# Altium footprint library 拍手开关电路设计.PcbLib: 8 footprints
Each footprint in its own frame and in the unit in brackets; x right, y up, seen from the top. Pads: shape width x height; smd on the part's side, far side on the other; paste and mask are expansions set on the pad; w line width, h text height; cw(c..) or ccw(c..) is an arc to the next point about the centre after c.
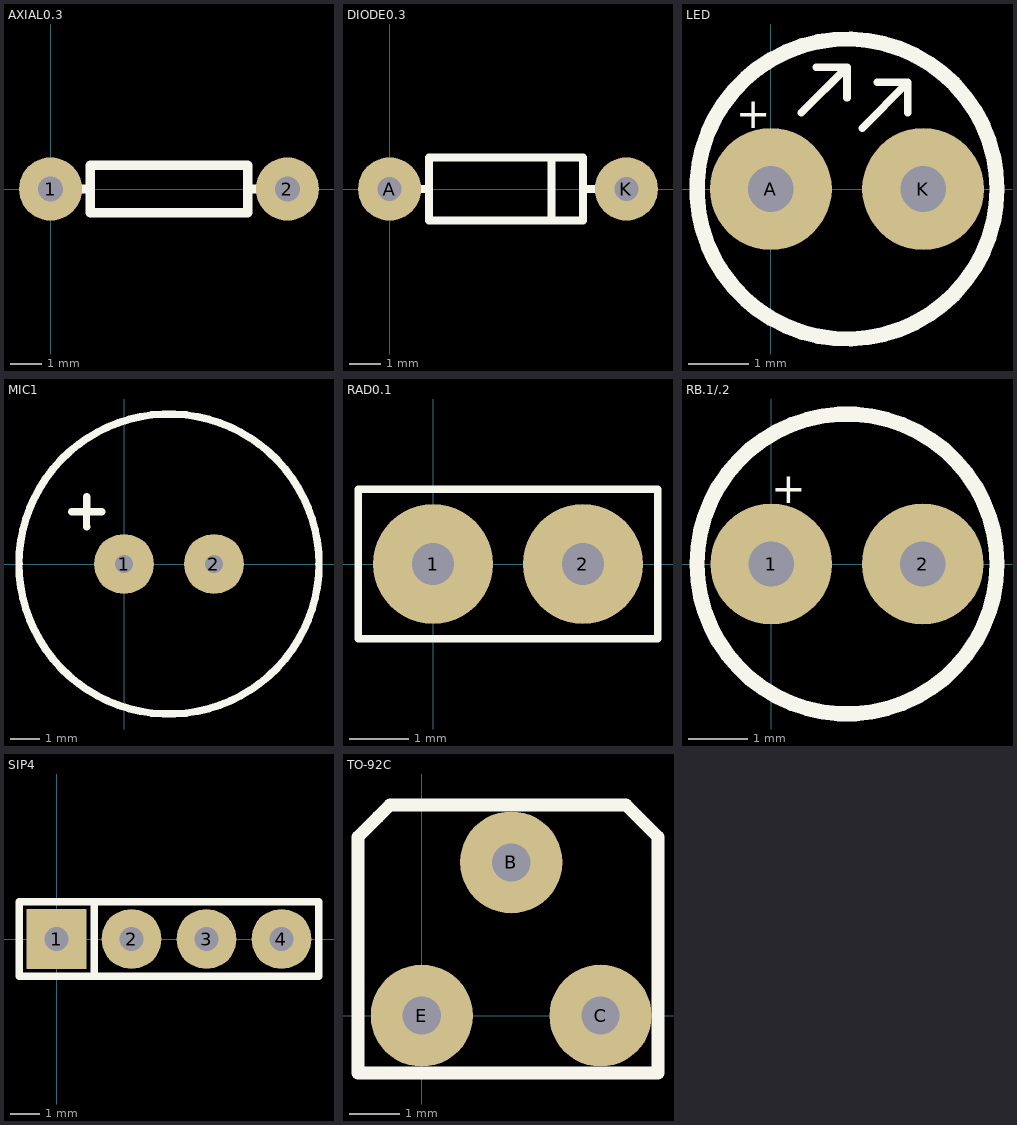
[diagram p0: the footprints below, top view; thin cyan lines are the x and y axes]

## AXIAL0.3 [mil]
pads (2):
  round 80 hole 32: 1(0,0) 2(300,0)
Top Overlay:
  lines w12: 41,0 50,0 ; 259,0 250,0 ; 250,0 250,-30 50,-30 50,30 250,30 250,0

## DIODE0.3 [mil]
pads (2):
  round 80 hole 30: A(0,0) K(300,0)
Top Overlay:
  lines w10: 0,0 50,0 ; 140,-40 245,-40 245,0 245,40 150,40 50,40 50,0 ; 150,-40 50,-40 50,0 ; 205,-40 205,40 ; 250,0 300,0

## LED [mil]
pads (2):
  round 80 hole 30: A(0,0) K(100,0)
Top Overlay:
  circle w10: c50,0 r98.49
  lines w5: 20,50 50,80 ; 30,80 50,80 ; 50,60 50,80 ; 60,40 90,70 ; 70,70 90,70 ; 90,50 90,70
  text "+" at 0,40 h20

## MIC1 [mil]
pads (2):
  round 80 hole 24: 1(0,0) 2(120,0)
Top Overlay:
  circle w10: c60,0 r200
  lines w10: -70,70 -30,70 ; -50,50 -50,90

## RAD0.1 [mil]
pads (2):
  round 80 hole 28: 1(0,0) 2(100,0)
Top Overlay:
  lines w5: -50,-50 150,-50 150,50 -50,50 -50,-50

## RB.1/.2 [mil]
pads (2):
  round 80 hole 30: 1(0,0) 2(100,0)
Top Overlay:
  circle w10: c50,0 r99
  text "+" at 0,40 h20

## SIP4 [mil]
pads (4):
  rect 80x80 hole 32: 1(0,0)
  round 80 hole 32: 2(100,0) 3(200,0) 4(300,0)
Top Overlay:
  lines w10: 50,-50 50,50 ; -50,-50 -50,50 350,50 350,-50 -50,-50

## TO-92C [mil]
pads (3):
  round 80 hole 30: B(70,120) C(140,0) E(0,0)
Top Overlay:
  lines w10: -34.37,155.63 -50,140 ; -50,140 -50,-45 -40,-45 185,-45 185,140 160,165 -25,165 -50,140